# Altium footprint library 691 334 500 0xx.PcbLib: 6 footprints
Each footprint in its own frame and in the unit in brackets; x right, y up, seen from the top. Pads: shape width x height; smd on the part's side, far side on the other; paste and mask are expansions set on the pad; w line width, h text height; cw(c..) or ccw(c..) is an arc to the next point about the centre after c.
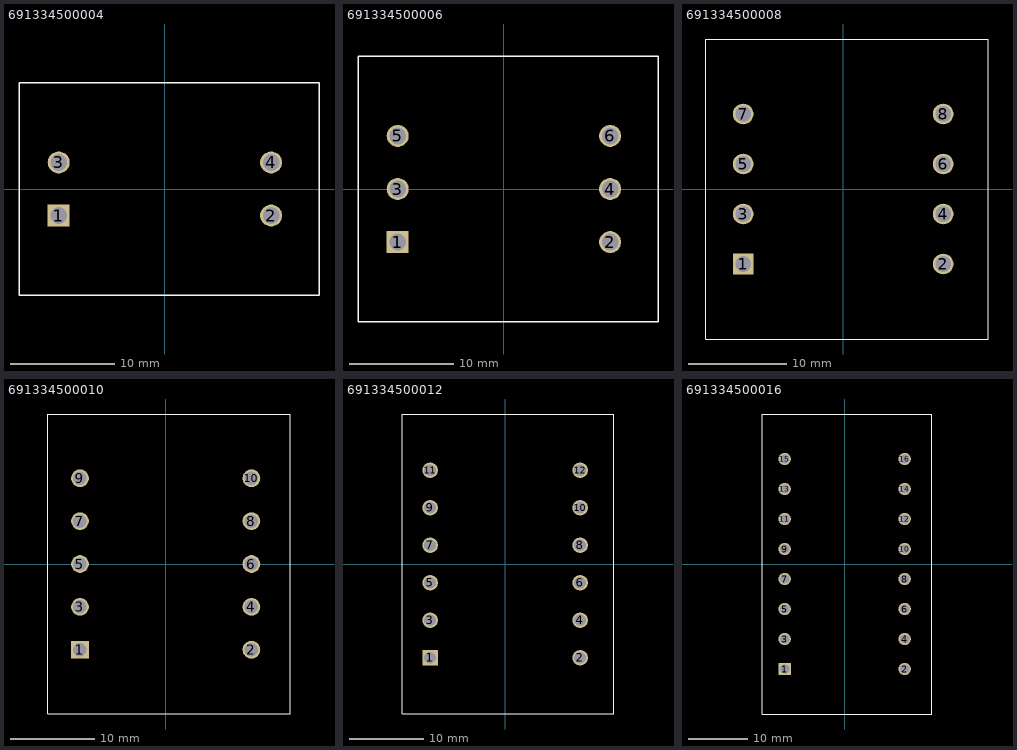
[diagram p0: the footprints below, top view; thin cyan lines are the x and y axes]

## 691334500004 [mm] "5,08mm - PCB - Dual row - Vertical - Flanges - 04p"
height 22
pads (4):
  rect 2.1x2.1 hole 1.6: 1(-10.16,-2.54)
  round 2.1 hole 1.6: 2(10.16,-2.54) 3(-10.16,2.54) 4(10.16,2.54)
Top Overlay:
  lines w0.127: -13.96,-10.16 14.74,-10.16 14.74,10.16 -13.96,10.16 -13.96,-10.16
3D body: height 22.01, standoff -3.89, extent -13.96,-10.16 14.84,10.16

## 691334500006 [mm] "5,08mm - PCB - Dual row - Vertical - Flanges - 06p"
height 22
pads (6):
  rect 2.1x2.1 hole 1.6: 1(-10.16,-5.08)
  round 2.1 hole 1.6: 2(10.16,-5.08) 3(-10.16,0) 4(10.16,0) 5(-10.16,5.08) 6(10.16,5.08)
Top Overlay:
  lines w0.127: -13.96,-7.62 -13.96,12.7 14.74,12.7 14.74,-7.62 ; -13.96,7.62 -13.96,-12.7 14.74,-12.7 14.74,7.62
3D body: height 22.01, standoff -3.89, extent -13.96,-12.7 14.84,12.7

## 691334500008 [mm] "5,08mm - PCB - Dual row - Vertical - Flanges - 04p"
height 22
pads (8):
  rect 2.1x2.1 hole 1.6: 1(-10.16,-7.62)
  round 2.1 hole 1.6: 2(10.16,-7.62) 3(-10.16,-2.54) 4(10.16,-2.54) 5(-10.16,2.54) 6(10.16,2.54) 7(-10.16,7.62) 8(10.16,7.62)
Top Overlay:
  lines w0.127: -13.96,-5.08 -13.96,15.24 14.74,15.24 14.74,-5.08 ; -13.96,5.08 -13.96,-15.24 14.74,-15.24 14.74,5.08
3D body: height 22.01, standoff -3.89, extent -13.96,-15.24 14.84,15.24

## 691334500010 [mm] "5,08mm - PCB - Dual row - Vertical - Flanges - 10p"
height 22
pads (10):
  rect 2.1x2.1 hole 1.6: 1(-10.16,-10.16)
  round 2.1 hole 1.6: 2(10.16,-10.16) 3(-10.16,-5.08) 4(10.16,-5.08) 5(-10.16,0) 6(10.16,0) 7(-10.16,5.08) 8(10.16,5.08) 9(-10.16,10.16) 10(10.16,10.16)
Top Overlay:
  lines w0.127: -13.96,-7.62 -13.96,12.7 ; -13.96,-2.54 -13.96,17.78 14.74,17.78 14.74,-2.54 ; -13.96,2.54 -13.96,-17.78 14.74,-17.78 14.74,2.54 ; 14.74,-7.62 14.74,12.7
3D body: height 22.01, standoff -3.89, extent -13.96,-17.78 14.84,17.78

## 691334500012 [mm] "5,08mm - PCB - Dual row - Vertical - Flanges - 12p"
height 22
pads (12):
  rect 2.1x2.1 hole 1.6: 1(-10.16,-12.7)
  round 2.1 hole 1.6: 2(10.16,-12.7) 3(-10.16,-7.62) 4(10.16,-7.62) 5(-10.16,-2.54) 6(10.16,-2.54) 7(-10.16,2.54) 8(10.16,2.54) 9(-10.16,7.62) 10(10.16,7.62) 11(-10.16,12.7) 12(10.16,12.7)
Top Overlay:
  lines w0.127: -13.96,-10.16 -13.96,10.16 ; 14.74,-10.16 14.74,10.16 ; -13.96,-20.32 -13.96,0 -13.96,20.32 14.74,20.32 14.74,0 14.74,-20.32 -13.96,-20.32
3D body: height 22.01, standoff -3.89, extent -13.96,-20.32 14.84,20.32

## 691334500016 [mm] "5,08mm - PCB - Dual row - Vertical - Flanges - 16p"
height 22
pads (16):
  rect 2.1x2.1 hole 1.6: 1(-10.16,-17.78)
  round 2.1 hole 1.6: 2(10.16,-17.78) 3(-10.16,-12.7) 4(10.16,-12.7) 5(-10.16,-7.62) 6(10.16,-7.62) 7(-10.16,-2.54) 8(10.16,-2.54) 9(-10.16,2.54) 10(10.16,2.54) 11(-10.16,7.62) 12(10.16,7.62) 13(-10.16,12.7) 14(10.16,12.7) 15(-10.16,17.78) 16(10.16,17.78)
Top Overlay:
  lines w0.127: -13.96,-15.24 -13.96,5.08 -13.96,25.4 14.74,25.4 14.74,5.08 14.74,-15.24 ; -13.96,15.24 -13.96,-5.08 -13.96,-25.4 14.74,-25.4 14.74,-5.08 14.74,15.24
3D body: height 22.01, standoff -3.89, extent -13.96,-25.4 14.84,25.4